# Altium schematic symbol library Lab_2.SchLib: 4 symbols
Pins are listed as number, name and electrical type; pins without a type are passive.

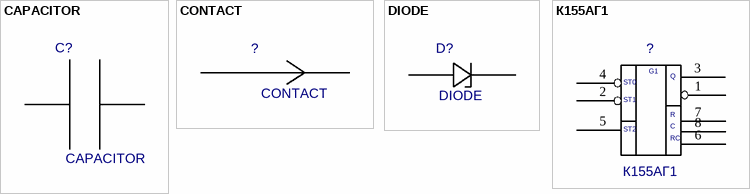
[diagram p0: symbols CAPACITOR to К155АГ1]

## CAPACITOR
designator С?
Value: *
footprint CAPACITOR
pins: 1, 2

## CONTACT
designator ?
Value: *
footprint CONTACT
pins: 1, 2, 3 hidden, 4 hidden, 5 hidden, 6 hidden, 7 hidden, 8 hidden

## DIODE
designator D?
Value: *
footprint DIODE
pins: 1, 2

## К155АГ1
designator ?
Value: *
footprint К155АГ1
pins: 1, 2, 3, 4, 5, 6, 7, 8
text: G1; Q; ST0; ST1; R; ST2; C; RC